# Altium footprint library Resistors Ceramic SMD.PcbLib: 36 footprints (part 2 of 3)
Each footprint in its own frame and in the unit in brackets; x right, y up, seen from the top. Pads: shape width x height; smd on the part's side, far side on the other; paste and mask are expansions set on the pad; w line width, h text height; cw(c..) or ccw(c..) is an arc to the next point about the centre after c.
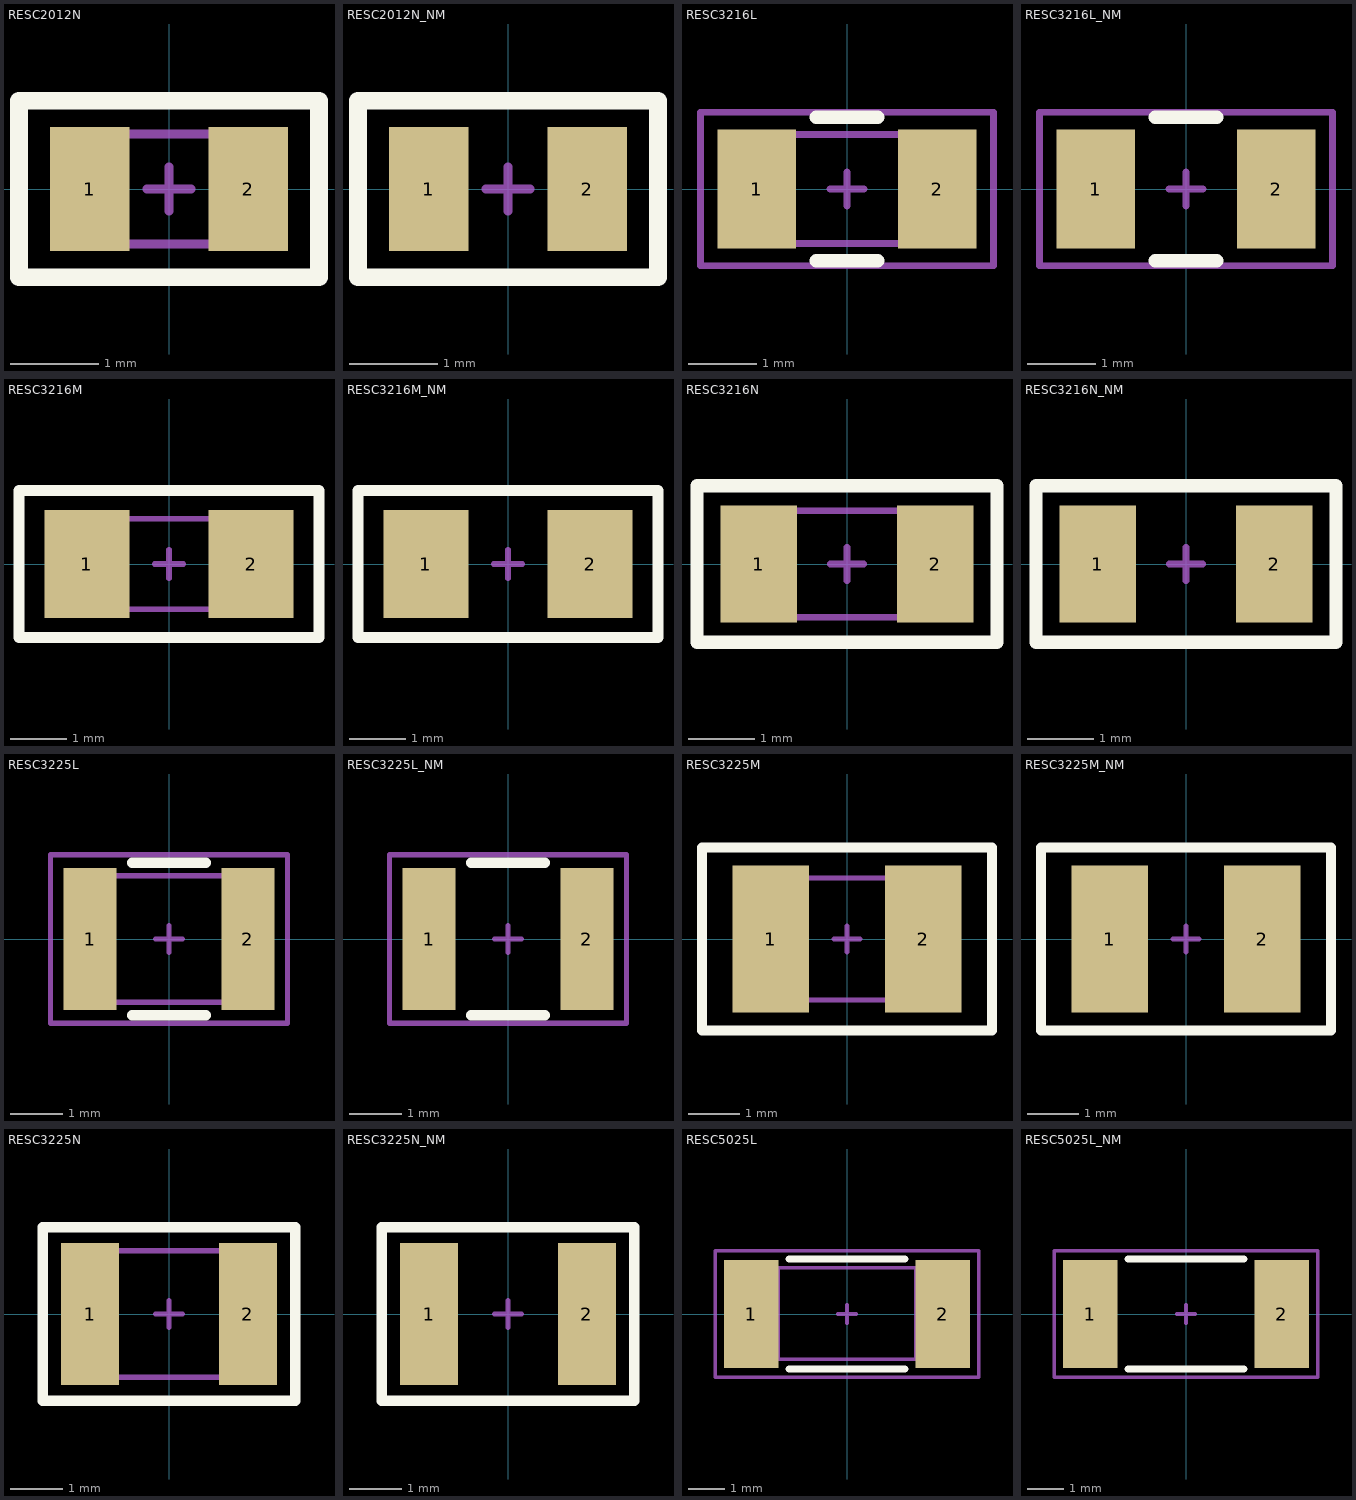
[diagram p1: the footprints below, top view; thin cyan lines are the x and y axes]

## RESC2012N [mm] "Chip Resistor, Body 2.0x1.2mm, IPC High Density"
height 0.5
pads (2):
  rect 0.9x1.4 smd: 1(-0.9,0) 2(0.9,0)
Top Overlay:
  lines w0.2: -1.7,-1 1.7,-1 1.7,1 -1.7,1 -1.7,-1
Top Package:
  lines w0.1: -0.625,-0.625 -0.625,0.625 ; 0.6,-0.625 0.6,0.625 ; -1,-0.625 1,-0.625 1,0.625 -1,0.625 -1,-0.625
Top Border:
  lines w0.1: -0.25,0 0.25,0 ; 0,-0.25 0,0.25 ; -1.7,-1 -1.7,1 1.7,1 1.7,-1 -1.7,-1
3D body "User Library-Res_Vishay_CRCW0805_2012.step": height 0.45, standoff 0, extent -1,-0.625 1,0.625

## RESC2012N_NM [mm] "Chip Resistor, Body 2.0x1.2mm, IPC High Density"
height 0.5
pads (2):
  rect 0.9x1.4 smd: 1(-0.9,0) 2(0.9,0)
Top Overlay:
  lines w0.2: -1.7,-1 1.7,-1 1.7,1 -1.7,1 -1.7,-1
Top Border:
  lines w0.1: -0.25,0 0.25,0 ; 0,-0.25 0,0.25 ; -1.7,-1 -1.7,1 1.7,1 1.7,-1 -1.7,-1

## RESC3216L [mm] "Chip Resistor, Body 3.2x1.6mm, IPC High Density"
height 0.75
pads (2):
  rect 1.15x1.75 smd: 1(-1.325,0) 2(1.325,0)
Top Overlay:
  lines w0.2: -0.45,-1.05 0.45,-1.05 ; -0.45,1.05 0.45,1.05
Top Package:
  lines w0.1: -1.2,-0.8 -1.2,0.8 ; 1.2,-0.8 1.2,0.8 ; -1.6,-0.8 1.6,-0.8 1.6,0.8 -1.6,0.8 -1.6,-0.8
Top Border:
  lines w0.1: -0.25,0 0.25,0 ; 0,-0.25 0,0.25 ; -2.15,-1.125 -2.15,1.125 2.15,1.125 2.15,-1.125 -2.15,-1.125
3D body "User Library-RESC3216X06N.step": height 0.55, standoff 0, extent -1.6,-0.8 1.6,0.8

## RESC3216L_NM [mm] "Chip Resistor, Body 3.2x1.6mm, IPC High Density"
height 0.75
pads (2):
  rect 1.15x1.75 smd: 1(-1.325,0) 2(1.325,0)
Top Overlay:
  lines w0.2: -0.45,-1.05 0.45,-1.05 ; -0.45,1.05 0.45,1.05
Top Border:
  lines w0.1: -0.25,0 0.25,0 ; 0,-0.25 0,0.25 ; -2.15,-1.125 2.15,-1.125 2.15,1.125 -2.15,1.125 -2.15,-1.125

## RESC3216M [mm] "Chip Resistor, Body 3.2x1.6mm, IPC High Density"
height 0.75
pads (2):
  rect 1.5x1.9 smd: 1(-1.45,0) 2(1.45,0)
Top Overlay:
  lines w0.2: -2.65,-1.3 -2.65,1.3 2.65,1.3 2.65,-1.3 -2.65,-1.3
Top Package:
  lines w0.1: -1.2,-0.8 -1.2,0.8 ; 1.2,-0.8 1.2,0.8 ; -1.6,-0.8 -1.6,0.8 1.6,0.8 1.6,-0.8 -1.6,-0.8
Top Border:
  lines w0.1: -0.25,0 0.25,0 ; 0,-0.25 0,0.25 ; -2.65,-1.3 2.65,-1.3 2.65,1.3 -2.65,1.3 -2.65,-1.3
3D body "User Library-RESC3216X06N.step": height 0.55, standoff 0, extent -1.6,-0.8 1.6,0.8

## RESC3216M_NM [mm] "Chip Resistor, Body 3.2x1.6mm, IPC High Density"
height 0.75
pads (2):
  rect 1.5x1.9 smd: 1(-1.45,0) 2(1.45,0)
Top Overlay:
  lines w0.2: -2.65,-1.3 2.65,-1.3 2.65,1.3 -2.65,1.3 -2.65,-1.3
Top Border:
  lines w0.1: -0.25,0 0.25,0 ; 0,-0.25 0,0.25 ; -2.65,-1.3 -2.65,1.3 2.65,1.3 2.65,-1.3 -2.65,-1.3

## RESC3216N [mm] "Chip Resistor, Body 3.2x1.6mm, IPC High Density"
height 0.75
pads (2):
  rect 1.15x1.75 smd: 1(-1.325,0) 2(1.325,0)
Top Overlay:
  lines w0.2: -2.25,-1.175 2.25,-1.175 2.25,1.175 -2.25,1.175 -2.25,-1.175
Top Package:
  lines w0.1: -1.2,-0.8 -1.2,0.8 ; 1.2,-0.8 1.2,0.8 ; -1.6,-0.8 1.6,-0.8 1.6,0.8 -1.6,0.8 -1.6,-0.8
Top Border:
  lines w0.1: -0.25,0 0.25,0 ; 0,-0.25 0,0.25 ; -2.25,-1.175 -2.25,1.175 2.25,1.175 2.25,-1.175 -2.25,-1.175
3D body "User Library-RESC3216X06N.step": height 0.55, standoff 0, extent -1.6,-0.8 1.6,0.8

## RESC3216N_NM [mm] "Chip Resistor, Body 3.2x1.6mm, IPC High Density"
height 0.75
pads (2):
  rect 1.15x1.75 smd: 1(-1.325,0) 2(1.325,0)
Top Overlay:
  lines w0.2: -2.25,-1.175 2.25,-1.175 2.25,1.175 -2.25,1.175 -2.25,-1.175
Top Border:
  lines w0.1: -0.25,0 0.25,0 ; 0,-0.25 0,0.25 ; -2.25,-1.175 2.25,-1.175 2.25,1.175 -2.25,1.175 -2.25,-1.175

## RESC3225L [mm] "Chip Resistor, Body 3.2x2.5mm, IPC High Density"
height 0.7
pads (2):
  rect 1x2.7 smd: 1(-1.5,0) 2(1.5,0)
Top Overlay:
  lines w0.2: -0.7,-1.45 0.7,-1.45 ; -0.7,1.45 0.7,1.45
Top Package:
  lines w0.1: -1.1,-1.2 -1.1,1.2 ; 1.1,-1.2 1.1,1.2 ; -1.6,-1.2 1.6,-1.2 1.6,1.2 -1.6,1.2 -1.6,-1.2
Top Border:
  lines w0.1: -0.25,0 0.25,0 ; 0,-0.25 0,0.25 ; -2.25,-1.6 2.25,-1.6 2.25,1.6 -2.25,1.6 -2.25,-1.6
3D body "User Library-RESC3225X06N.step": height 0.55, standoff 0, extent -1.575,-1.25 1.625,1.25

## RESC3225L_NM [mm] "Chip Resistor, Body 3.2x2.5mm, IPC High Density"
height 0.7
pads (2):
  rect 1x2.7 smd: 1(-1.5,0) 2(1.5,0)
Top Overlay:
  lines w0.2: -0.7,-1.45 0.7,-1.45 ; -0.7,1.45 0.7,1.45
Top Border:
  lines w0.1: -0.25,0 0.25,0 ; 0,-0.25 0,0.25 ; -2.25,-1.6 2.25,-1.6 2.25,1.6 -2.25,1.6 -2.25,-1.6

## RESC3225M [mm] "Chip Resistor, Body 3.2x2.5mm, IPC High Density"
height 0.7
pads (2):
  rect 1.5x2.9 smd: 1(-1.5,0) 2(1.5,0)
Top Overlay:
  lines w0.2: -2.85,-1.8 2.85,-1.8 2.85,1.8 -2.85,1.8 -2.85,-1.8
Top Package:
  lines w0.1: -1.1,-1.2 -1.1,1.2 ; 1.1,-1.2 1.1,1.2 ; -1.6,-1.2 1.6,-1.2 1.6,1.2 -1.6,1.2 -1.6,-1.2
Top Border:
  lines w0.1: -0.25,0 0.25,0 ; 0,-0.25 0,0.25 ; -2.85,-1.8 2.85,-1.8 2.85,1.8 -2.85,1.8 -2.85,-1.8
3D body "User Library-RESC3225X06N.step": height 0.55, standoff 0, extent -1.575,-1.25 1.625,1.25

## RESC3225M_NM [mm] "Chip Resistor, Body 3.2x2.5mm, IPC High Density"
height 0.7
pads (2):
  rect 1.5x2.9 smd: 1(-1.5,0) 2(1.5,0)
Top Overlay:
  lines w0.2: -2.85,-1.8 2.85,-1.8 2.85,1.8 -2.85,1.8 -2.85,-1.8
Top Border:
  lines w0.1: -0.25,0 0.25,0 ; 0,-0.25 0,0.25 ; -2.85,-1.8 2.85,-1.8 2.85,1.8 -2.85,1.8 -2.85,-1.8

## RESC3225N [mm] "Chip Resistor, Body 3.2x2.5mm, IPC High Density"
height 0.7
pads (2):
  rect 1.1x2.7 smd: 1(-1.5,0) 2(1.5,0)
Top Overlay:
  lines w0.2: -2.4,-1.65 -2.4,1.65 2.4,1.65 2.4,-1.65 -2.4,-1.65
Top Package:
  lines w0.1: -1.1,-1.2 -1.1,1.2 ; 1.1,-1.2 1.1,1.2 ; -1.6,-1.2 -1.6,1.2 1.6,1.2 1.6,-1.2 -1.6,-1.2
Top Border:
  lines w0.1: -0.25,0 0.25,0 ; 0,-0.25 0,0.25 ; -2.4,-1.65 2.4,-1.65 2.4,1.65 -2.4,1.65 -2.4,-1.65
3D body "User Library-RESC3225X06N.step": height 0.55, standoff 0, extent -1.575,-1.25 1.625,1.25

## RESC3225N_NM [mm] "Chip Resistor, Body 3.2x2.5mm, IPC High Density"
height 0.7
pads (2):
  rect 1.1x2.7 smd: 1(-1.5,0) 2(1.5,0)
Top Overlay:
  lines w0.2: -2.4,-1.65 -2.4,1.65 2.4,1.65 2.4,-1.65 -2.4,-1.65
Top Border:
  lines w0.1: -0.25,0 0.25,0 ; 0,-0.25 0,0.25 ; -2.4,-1.65 2.4,-1.65 2.4,1.65 -2.4,1.65 -2.4,-1.65

## RESC5025L [mm] "Chip Resistor, Body 5.0x2.5mm, IPC High Density"
height 0.7
pads (2):
  rect 1.5x3 smd: 1(-2.65,0) 2(2.65,0)
Top Overlay:
  lines w0.2: -1.6,-1.525 1.6,-1.525 ; -1.6,1.525 1.6,1.525
Top Package:
  lines w0.1: -1.9,-1.25 -1.9,1.275 ; 1.9,-1.25 1.9,1.275 ; -2.5,-1.25 -2.5,1.275 2.5,1.275 2.5,-1.25 -2.5,-1.25
Top Border:
  lines w0.1: -0.25,0 0.25,0 ; 0,-0.25 0,0.25 ; -3.65,-1.75 3.65,-1.75 3.65,1.75 -3.65,1.75 -3.65,-1.75
3D body "RES 2010.step": height 0.55, standoff 0, extent -2.5,-1.26 2.5,1.26

## RESC5025L_NM [mm] "Chip Resistor, Body 5.0x2.5mm, IPC High Density"
height 0.7
pads (2):
  rect 1.5x3 smd: 1(-2.65,0) 2(2.65,0)
Top Overlay:
  lines w0.2: -1.6,-1.525 1.6,-1.525 ; -1.6,1.525 1.6,1.525
Top Border:
  lines w0.1: -0.25,0 0.25,0 ; 0,-0.25 0,0.25 ; -3.65,-1.75 3.65,-1.75 3.65,1.75 -3.65,1.75 -3.65,-1.75